# Altium integrated library BM02B-NSHSS-TBT.IntLib: 1 symbol
Pins are listed as number, name and electrical type; pins without a type are passive.

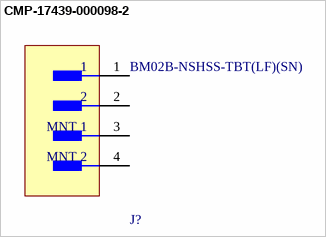
[diagram p0: symbol CMP-17439-000098-2]

## CMP-17439-000098-2
designator J?, comment BM02B-NSHSS-TBT(LF)(SN)
CONN HEADER SMD 2POS 1MM; NexarPartId: 47312786; Voltage Rating: 50V; Current Rating: 1A; Number of Contacts: 2; Pitch: 990.6µm; Connector Type: Outer Shroud Contact; Mount: Surface Mount; Contact Plating: Tin; Lead Free: Lead Free; Contact Material: Copper, Tin; RoHS: Compliant; Number of Rows: 1; Color: Natural; Fastening Type: Latch; Height: 6mm; Min Operating Temperature: -25°C; Number of Positions: 2; Termination: Solder; Packaging: Tape & Reel (TR); Max Operating Temperature: 85°C
footprint FP-BM02B-NSHSS-TBT_LF_S-0
pins: 1, 2, 3 MNT 1, 4 MNT 2